# Altium integrated library library91.IntLib: 141 symbols (part 2 of 2)
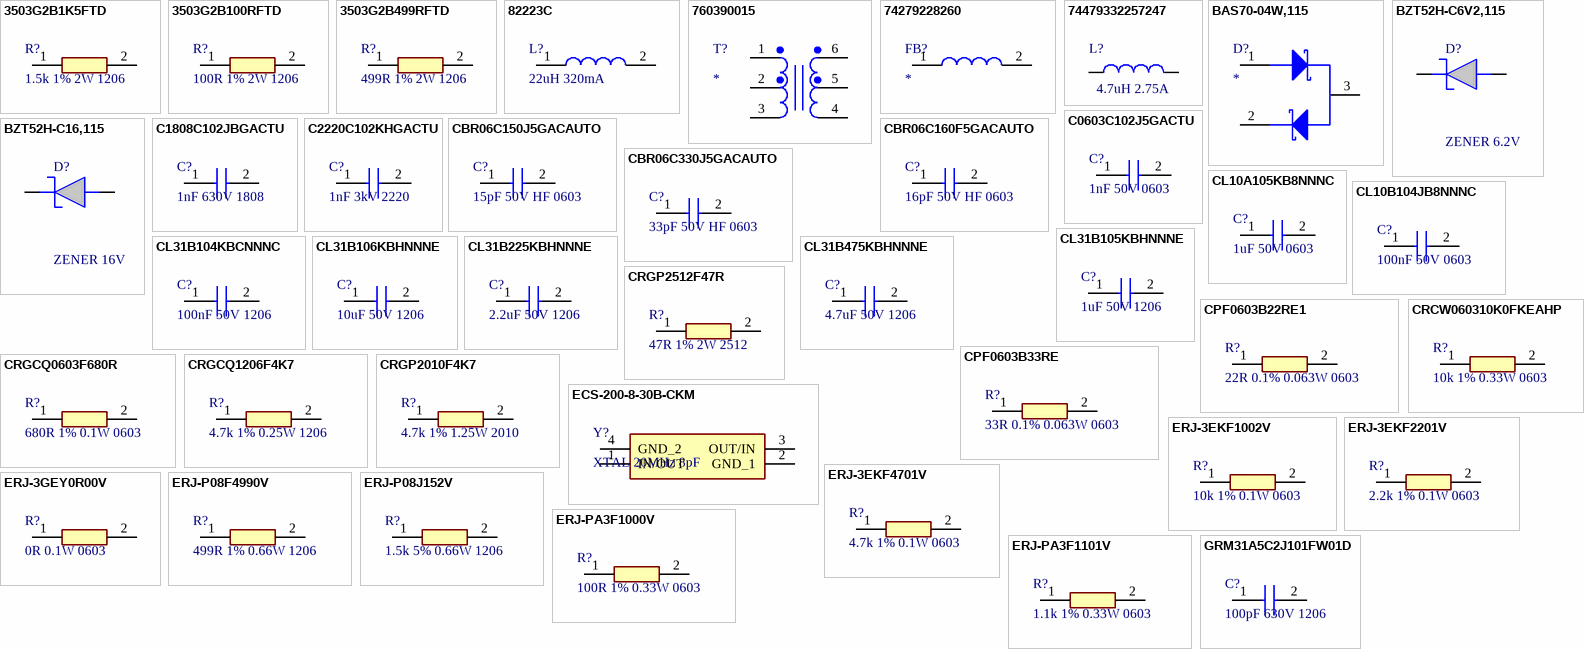
[diagram p8: symbols 3503G2B1K5FTD to GRM31A5C2J101FW01D]

## ERJ-3GEY0R00V
designator R?, comment 0R 0.1W 0603
RES 0 OHM 1/10W 0603; Manufacturer_Name: Panasonic; Manufacturer_Part_Number: ERJ-3GEY0R00V; Datasheet Link: http://docs-europe.electrocomponents.com/webdocs/13ba/0900766b813ba21b.pdf; Height: 0.55mm; Mouser Part Number: 667-ERJ-3GEY0R00V; Mouser Price/Stock: https://www.mouser.co.uk/ProductDetail/Panasonic/ERJ-3GEY0R00V?qs=66DK8nO8gJALIOqOWgiVwg%3D%3D; Arrow Part Number: ERJ-3GEY0R00V; Arrow Price/Stock: https://www.arrow.com/en/products/erj3gey0r00v/panasonic?utm_currency=USD&region=europe
footprint ERJ3EKF1000V
pins: 1, 2

## ERJ-P08F4990V
designator R?, comment 499R 1% 0.66W 1206
RES 499 OHM 1% 2/3W 1206; Manufacturer_Name: Panasonic; Manufacturer_Part_Number: ERJ-P08F4990V; Datasheet Link: http://industrial.panasonic.com/cdbs/www-data/pdf/RDO0000/AOA0000C331.pdf; Height: 0.7mm; Mouser Part Number: 667-ERJ-P08F4990V; Mouser Price/Stock: https://www.mouser.co.uk/ProductDetail/Panasonic/ERJ-P08F4990V?qs=iIVTEDlrHA1isfiYlIU3qA%3D%3D; Arrow Part Number: ERJ-P08F4990V; Arrow Price/Stock: https://www.arrow.com/en/products/erj-p08f4990v/panasonic?utm_currency=USD&region=nac
footprint ERJP08_(1206)
pins: 1, 2

## ERJ-P08J152V
designator R?, comment 1.5k 5% 0.66W 1206
RES 1.5 KOHM  5% 2/3W 1206; Manufacturer_Name: Panasonic; Manufacturer_Part_Number: ERJ-P08J152V; Datasheet Link: http://industrial.panasonic.com/cdbs/www-data/pdf/RDO0000/AOA0000C331.pdf; Height: 0.7mm; Mouser Part Number: 667-ERJ-P08J152V; Mouser Price/Stock: https://www.mouser.co.uk/ProductDetail/Panasonic/ERJ-P08J152V?qs=1VWA5LkbEaq2zTNkpqKKKA%3D%3D; Arrow Part Number: ERJ-P08J152V; Arrow Price/Stock: https://www.arrow.com/en/products/erj-p08j152v/panasonic?utm_currency=USD&region=europe
footprint ERJP08_(1206)
pins: 1, 2

## ERJ-PA3F1000V
designator R?, comment 100R 1% 0.33W 0603
RES 100 OHM 1% 1/3W 0603; Manufacturer_Name: Panasonic; Manufacturer_Part_Number: ERJ-PA3F1000V; Datasheet Link: https://industrial.panasonic.com/cdbs/www-data/pdf/RDO0000/AOA0000C331.pdf; Height: 0.55mm; Mouser Part Number: 667-ERJ-PA3F1000V; Mouser Price/Stock: https://www.mouser.co.uk/ProductDetail/Panasonic/ERJ-PA3F1000V?qs=BzJM0faLVqW%252BmZ6RyMVrFA%3D%3D; Arrow Part Number: ERJ-PA3F1000V; Arrow Price/Stock: https://www.arrow.com/en/products/erj-pa3f1000v/panasonic?utm_currency=USD&region=nac
footprint ERJP03_PA3_(0603)
pins: 1, 2

## ERJ-PA3F1101V
designator R?, comment 1.1k 1% 0.33W 0603
RES 1.1 KOHM 1% 1/3W 0603; Manufacturer_Name: Panasonic; Manufacturer_Part_Number: ERJPA3F1101V; Datasheet Link: https://industrial.panasonic.com/cdbs/www-data/pdf/RDA0000/AOA0000C243.pdf; Height: 0.55mm; Arrow Part Number: ERJPA3F1101V; Arrow Price/Stock: https://www.arrow.com/en/products/erj-pa3f1101v/panasonic?utm_currency=USD&region=nac
footprint ERJP03_PA3_(0603)
pins: 1, 2

## GRM31A5C2J101FW01D
designator C?, comment 100pF 630V 1206
CAP CER 100PF 630V C0G 1206; Manufacturer_Name: Murata Electronics; Manufacturer_Part_Number: GRM31A5C2J101FW01D; Datasheet Link: https://search.murata.co.jp/Ceramy/image/img/A01X/G101/ENG/GRM31A5C2J101FW01-05B.pdf; Height: 1.25mm; Mouser Part Number: 81-GRM31A5C2J11FW01D; Mouser Price/Stock: https://www.mouser.co.uk/ProductDetail/Murata-Electronics/GRM31A5C2J101FW01D?qs=rrS6PyfT74f3oxTTkWsVBQ%3D%3D; Arrow Part Number: GRM31A5C2J101FW01D; Arrow Price/Stock: https://www.arrow.com/en/products/grm31a5c2j101fw01d/murata-manufacturing?utm_currency=USD&region=nac
footprint GRM31x
pins: 1, 2

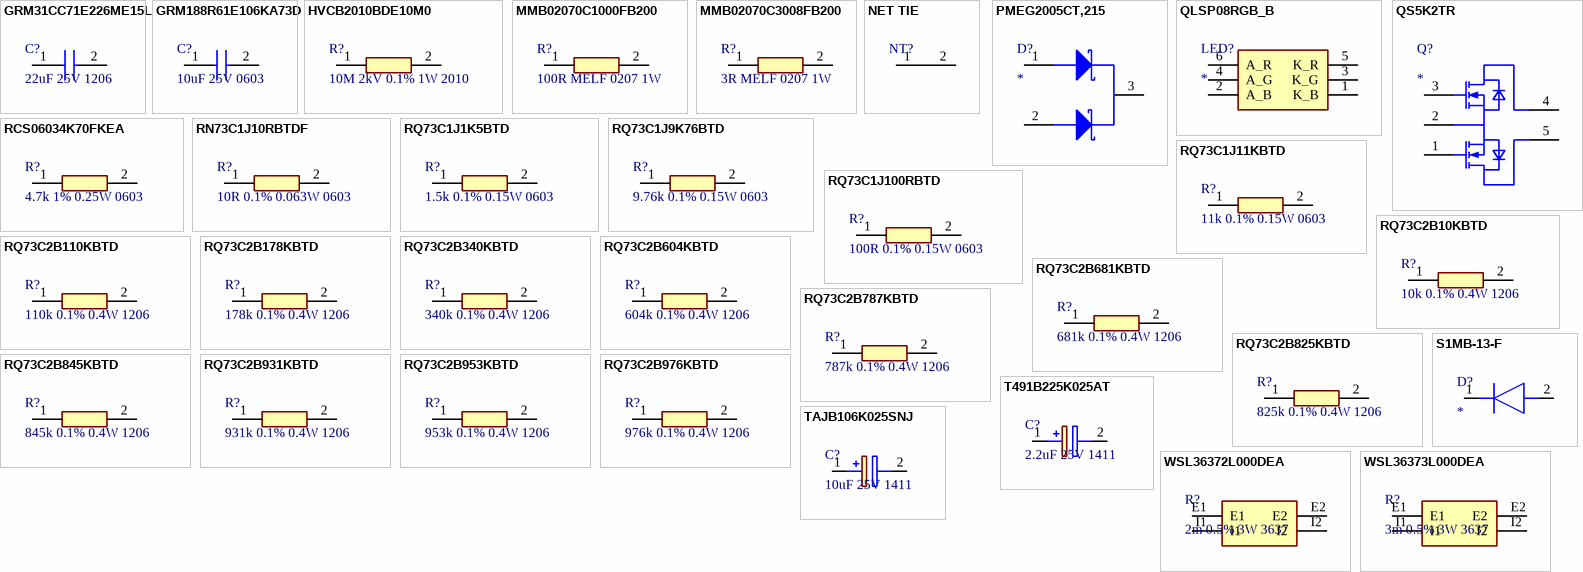
[diagram p4: symbols GRM31CC71E226ME15L to WSL36373L000DEA]

## GRM31CC71E226ME15L
designator C?, comment 22uF 25V 1206
CAP CER 22UF 25V X7S 1206; Manufacturer_Name: Murata Electronics; Manufacturer_Part_Number: GRM31CC71E226ME15L; Datasheet Link: https://search.murata.co.jp/Ceramy/image/img/A01X/G101/ENG/GRM31CC71E226ME15-01A.pdf; Height: 1.25mm; Mouser Part Number: 81-GRM31CC71E226ME5L; Mouser Price/Stock: https://www.mouser.co.uk/ProductDetail/Murata-Electronics/GRM31CC71E226ME15L?qs=pUKx8fyJudCHY0oGjx2nuQ%3D%3D; Arrow Part Number: GRM31CC71E226ME15L; Arrow Price/Stock: https://www.arrow.com/en/products/grm31cc71e226me15l/murata-manufacturing?utm_currency=USD&region=nac
footprint GRM31x
pins: 1, 2

## GRM188R61E106KA73D
designator C?, comment 10uF 25V 0603
CAP CER 10UF 25V X5R 0603; Manufacturer_Name: Murata Electronics; Manufacturer_Part_Number: GRM188R61E106KA73D; Datasheet Link: https://search.murata.co.jp/Ceramy/image/img/A01X/G101/ENG/GRM188R61E106KA73-01A.pdf; Height: 0.9mm; Mouser Part Number: 81-GRM188R61E106KA3D; Mouser Price/Stock: https://www.mouser.co.uk/ProductDetail/Murata-Electronics/GRM188R61E106KA73D?qs=5aG0NVq1C4z8ebxPkQZf9A%3D%3D; Arrow Part Number: GRM188R61E106KA73D; Arrow Price/Stock: https://www.arrow.com/en/products/grm188r61e106ka73d/murata-manufacturing?utm_currency=USD&region=nac
footprint CAPC1608X90N
pins: 1, 2

## HVCB2010BDE10M0
designator R?, comment 10M 2kV 0.1% 1W 2010
RES 10 MOHM 2KV 0.1% 1W 2010; Manufacturer_Name: Stackpole Electronics; Manufacturer_Part_Number: HVCB2010BDE10M0; Datasheet Link: https://cs.seielect.com/catalog/SEI-HVC.pdf; Height: 0.76mm; Mouser Part Number: 708-HVCB2010BDE10M0; Mouser Price/Stock: https://www.mouser.co.uk/ProductDetail/SEI-Stackpole/HVCB2010BDE10M0?qs=IPgv5n7u5QZLnWujxy1pUg%3D%3D; Arrow Part Number: HVCB2010BDE10M0; Arrow Price/Stock: https://www.arrow.com/en/products/hvcb2010bde10m0/stackpole-electronics?utm_currency=USD&region=nac
footprint RESC5125X76N
pins: 1, 2

## MMB02070C1000FB200
designator R?, comment 100R MELF 0207 1W
RES 100 OHM MELF 0207 1W; Manufacturer_Name: Vishay; Manufacturer_Part_Number: MMB02070C1000FB200; Datasheet Link: http://uk.rs-online.com/web/p/products/6787845; Mouser Part Number: 594-MMB02070C1000FB2; Mouser Price/Stock: https://www.mouser.co.uk/ProductDetail/Vishay-Beyschlag/MMB02070C1000FB200?qs=Lnc17S3XxqB4aX6TuvzPvw%3D%3D; Arrow Part Number: MMB02070C1000FB200; Arrow Price/Stock: https://www.arrow.com/en/products/mmb02070c1000fb200/vishay?utm_currency=USD&region=europe
footprint MMB0207
pins: 1, 2

## MMB02070C3008FB200
designator R?, comment 3R MELF 0207 1W
RES 3 OHM MELF 0207 1W; Manufacturer_Name: Vishay; Manufacturer_Part_Number: MMB02070C3008FB200; Datasheet Link: https://www.vishay.com/docs/28713/melfprof.pdf; Height: 2.2mm; Mouser Part Number: 594-MMB02070C3008FB2; Mouser Price/Stock: https://www.mouser.co.uk/ProductDetail/Vishay-Beyschlag/MMB02070C3008FB200?qs=YmMt7wOBEV5WUlHhJ27BBg%3D%3D; Arrow Part Number: MMB02070C3008FB200; Arrow Price/Stock: https://www.arrow.com/en/products/mmb02070c3008fb200/vishay?utm_currency=USD&region=nac
footprint MMB02070C3008FB200
pins: 1, 2

## NET TIE
designator NT?  (net tie, no BOM)
Height: 0.55mm
footprint NETTIE
pins: 1, 2

## PMEG2005CT,215
designator D?
DIODE ARR SCHOTTKY COM-K 20V TO-236AB; Manufacturer_Name: Nexperia; Manufacturer_Part_Number: PMEG2005CT,215; Datasheet Link: https://assets.nexperia.com/documents/data-sheet/PMEG2005CT.pdf; Height: 1.1mm; Mouser Part Number: 771-PMEG2005CT215; Mouser Price/Stock: https://www.mouser.co.uk/ProductDetail/Nexperia/PMEG2005CT215?qs=LMSg3oBIm%2Fhby4gUB%2FSQqQ%3D%3D; Arrow Part Number: PMEG2005CT,215; Arrow Price/Stock: https://www.arrow.com/en/products/pmeg2005ct215/nexperia?utm_currency=USD&region=nac
footprint SOT95P230X110-3N
pins: 1 ANODE_1, 2 ANODE_2, 3 COMMON_CATHODE

## QLSP08RGB_B
designator LED?
LED RGB DIFFUSED 5050 SMD; Manufacturer_Name: QUELIGHTING; Manufacturer_Part_Number: QLSP08RGB_B; Datasheet Link: https://mm.digikey.com/Volume0/opasdata/d220001/medias/docus/5338/QLSP08RGB_B.pdf; Height: 1.8mm
footprint QLSP08RGB_B
pins: 1 K_B, 2 A_B, 3 K_G, 4 A_G, 5 K_R, 6 A_R

## QS5K2TR
designator Q?
MOS 2N COMM SOUR 30V 2A TSMT5; Manufacturer_Name: ROHM Semiconductor; Manufacturer_Part_Number: QS5K2TR; Datasheet Link: http://rohmfs.rohm.com/en/products/databook/datasheet/discrete/transistor/mosfet/qs5k2.pdf; Height: 1mm; Mouser Part Number: 755-QS5K2TR; Mouser Price/Stock: https://www.mouser.co.uk/ProductDetail/ROHM-Semiconductor/QS5K2TR?qs=4kLU8WoGk0sAzJF854peiQ%3D%3D
footprint SOT95P280X100-5N
pins: 1 TR1_GATE, 2 TR1_SOURCE_TR2_SOURCE, 3 TR2_GATE, 4 TR2_DRAIN, 5 TR1_DRAIN

## RCS06034K70FKEA
designator R?, comment 4.7k 1% 0.25W 0603
RES 4.7 KOHM 1% 1/4W 0603; Manufacturer_Name: Vishay; Manufacturer_Part_Number: RCS06034K70FKEA; Datasheet Link: https://www.vishay.com/docs/20065/rcse3.pdf; Mouser Part Number: 71-RCS06034K70FKEA; Mouser Price/Stock: https://www.mouser.co.uk/ProductDetail/Vishay-Dale/RCS06034K70FKEA?qs=NKmfXavxMaxcaMGLC8ehbA%3D%3D; Arrow Part Number: RCS06034K70FKEA; Arrow Price/Stock: https://www.arrow.com/en/products/rcs06034k70fkea/vishay?utm_currency=USD&region=nac
footprint RCS0603_E3
pins: 1, 2

## RN73C1J10RBTDF
designator R?, comment 10R 0.1% 0.063W 0603
RES 10 OHM 0.1% 1/16W 0603; Manufacturer_Name: TE Connectivity; Manufacturer_Part_Number: RN73C1J10RBTDF; Datasheet Link: https://www.te.com/commerce/DocumentDelivery/DDEController?Action=srchrtrv&DocNm=8-1773459-4_ELEVATOR_ESCALATOR_SOLUTIONS&DocType=Data%20Sheet&DocLang=English&PartCntxt=8-1879133-0&DocFormat=pdf; Height: 0.55mm; Mouser Part Number: 279-RN73C1J10RBTDF; Mouser Price/Stock: https://www.mouser.com.tr/ProductDetail/TE-Connectivity-Holsworthy/RN73C1J10RBTDF?qs=iJVBkmKXgrnCb4P1y6o3xw%3D%3D; Arrow Part Number: RN73C1J10RBTDF; Arrow Price/Stock: https://www.arrow.com/en/products/rn73c1j10rbtdf/te-connectivity?q=RN73C1J10RBTDF
footprint RESC1608X55N
pins: 1, 2

## RQ73C1J1K5BTD
designator R?, comment 1.5k 0.1% 0.15W 0603
RES 1.5 KOHM 0.1% 0.15W 0603; Manufacturer_Name: TE Connectivity; Manufacturer_Part_Number: RQ73C1J1K5BTD; Datasheet Link: https://www.te.com/usa-en/product-5-2176370-3.datasheet.pdf; Height: 0.55mm; Mouser Part Number: 279-RQ73C1J1K5BTD; Mouser Price/Stock: https://www.mouser.co.uk/ProductDetail/TE-Connectivity-Holsworthy/RQ73C1J105KBTDF?qs=gZXFycFWdAObvOWrG7trrA%3D%3D; Arrow Part Number: RQ73C1J1K5BTD; Arrow Price/Stock: https://www.arrow.com/en/products/rq73c1j1k5btd/te-connectivity?q=RQ73C1J1K5BTD
footprint RESC1608X55N
pins: 1, 2

## RQ73C1J9K76BTD
designator R?, comment 9.76k 0.1% 0.15W 0603
RES 9.76 KOHM 0.1% 0.15W 0603; Manufacturer_Name: TE Connectivity; Manufacturer_Part_Number: RQ73C1J9K76BTD; Datasheet Link: https://www.te.com/usa-en/product-3-2176371-2.datasheet.pdf; Height: 0.55mm; Mouser Part Number: 279-RQ73C1J9K76BTD; Mouser Price/Stock: https://www.mouser.com.tr/ProductDetail/TE-Connectivity-Holsworthy/RQ73C1J9K76BTD?qs=gZXFycFWdAN%252Bb7SE6PAquw%3D%3D; Arrow Part Number: RQ73C1J9K76BTD; Arrow Price/Stock: https://www.arrow.com/en/products/rq73c1j9k76btd/te-connectivity
footprint RESC1608X55N
pins: 1, 2

## RQ73C1J11KBTD
designator R?, comment 11k 0.1% 0.15W 0603
RES 11 KOHM 0.1% 0.15W 0603; Manufacturer_Name: TE Connectivity; Manufacturer_Part_Number: RQ73C1J11KBTD; Datasheet Link: https://www.te.com/usa-en/product-3-2176371-7.datasheet.pdf; Height: 0.55mm; Mouser Part Number: 279-RQ73C1J11KBTD; Mouser Price/Stock: https://www.mouser.com.tr/ProductDetail/TE-Connectivity-Holsworthy/RQ73C1J11KBTD?qs=gZXFycFWdAN4lIqXU3eCqw%3D%3D
footprint RESC1608X55N
pins: 1, 2

## RQ73C1J100RBTD
designator R?, comment 100R 0.1% 0.15W 0603
RES 100 OHM 0.1% 0.15W 0603; Manufacturer_Name: TE Connectivity; Manufacturer_Part_Number: RQ73C1J100RBTD; Datasheet Link: https://www.te.com/usa-en/product-3-2176369-9.datasheet.pdf; Height: 0.55mm; Mouser Part Number: 279-RQ73C1J100RBTD; Mouser Price/Stock: https://www.mouser.co.uk/ProductDetail/TE-Connectivity-Holsworthy/RQ73C1J105KBTDF?qs=gZXFycFWdAObvOWrG7trrA%3D%3D
footprint RESC1608X55N
pins: 1, 2

## RQ73C2B10KBTD
designator R?, comment 10k 0.1% 0.4W 1206
RES 10 KOHM 0.1% 0.4W 1206; Manufacturer_Name: TE Connectivity; Manufacturer_Part_Number: RQ73C2B10KBTD; Datasheet Link: https://www.te.com/usa-en/product-9-2176390-1.datasheet.pdf; Height: 0.65mm; Mouser Part Number: 279-RQ73C2B10KBTD; Mouser Price/Stock: https://www.mouser.com.tr/ProductDetail/TE-Connectivity-Holsworthy/RQ73C2B10KBTD?qs=gZXFycFWdANWMnGuXdGmXg%3D%3D; Arrow Part Number: RQ73C2B10KBTD; Arrow Price/Stock: https://www.arrow.com/en/products/rq73c2b10kbtd/te-connectivity
footprint RESC3016X65N
pins: 1, 2

## RQ73C2B110KBTD
designator R?, comment 110k 0.1% 0.4W 1206
RES 110 KOHM 0.1% 0.4W 1206; Manufacturer_Name: TE Connectivity; Manufacturer_Part_Number: RQ73C2B110KBTD; Datasheet Link: https://www.te.com/usa-en/product-9-2176391-2.datasheet.pdf; Height: 0.65mm; Mouser Part Number: 279-RQ73C2B110KBTD; Mouser Price/Stock: https://www.mouser.com.tr/ProductDetail/TE-Connectivity-Holsworthy/RQ73C2B110KBTD?qs=gZXFycFWdAPo3ZyBERyi4A%3D%3D; Arrow Part Number: RQ73C2B110KBTD; Arrow Price/Stock: https://www.arrow.com/en/products/rq73c2b110kbtd/te-connectivity?q=RQ73C2B110KBTD
footprint RESC3016X65N
pins: 1, 2

## RQ73C2B178KBTD
designator R?, comment 178k 0.1% 0.4W 1206
RES 178 KOHM 0.1% 0.4W 1206; Manufacturer_Name: TE Connectivity; Manufacturer_Part_Number: RQ73C2B178KBTD; Datasheet Link: https://www.te.com/usa-en/product-1-2176392-3.datasheet.pdf; Height: 0.65mm; Mouser Part Number: 279-RQ73C2B178KBTD; Mouser Price/Stock: https://www.mouser.com.tr/ProductDetail/TE-Connectivity-Holsworthy/RQ73C2B178KBTD?qs=gZXFycFWdANsRYhaTIYFXg%3D%3D; Arrow Part Number: RQ73C2B178KBTD; Arrow Price/Stock: https://www.arrow.com/en/products/rq73c2b178kbtd/te-connectivity?q=RQ73C2B178KBTD
footprint RESC3016X65N
pins: 1, 2

## RQ73C2B340KBTD
designator R?, comment 340k 0.1% 0.4W 1206
RES 340 KOHM 0.1% 0.4W 1206; Manufacturer_Name: TE Connectivity; Manufacturer_Part_Number: RQ73C2B340KBTD; Datasheet Link: https://www.te.com/usa-en/product-4-2176392-0.datasheet.pdf; Height: 0.65mm; Mouser Part Number: 279-RQ73C2B340KBTD; Mouser Price/Stock: https://www.mouser.com.tr/ProductDetail/TE-Connectivity-Holsworthy/RQ73C2B340KBTD?qs=gZXFycFWdAPzxpGJ8YKiWg%3D%3D; Arrow Part Number: RQ73C2B340KBTD; Arrow Price/Stock: https://www.arrow.com/en/products/rq73c2b340kbtd/te-connectivity?q=RQ73C2B340KBTD
footprint RESC3016X65N
pins: 1, 2

## RQ73C2B604KBTD
designator R?, comment 604k 0.1% 0.4W 1206
RES 604 KOHM 0.1% 0.4W 1206; Manufacturer_Name: TE Connectivity; Manufacturer_Part_Number: RQ73C2B604KBTD; Datasheet Link: https://www.te.com/usa-en/product-8-2176392-2.datasheet.pdf; Height: 0.65mm; Mouser Part Number: 279-RQ73C2B604KBTD; Mouser Price/Stock: https://www.mouser.com.tr/ProductDetail/TE-Connectivity-Holsworthy/RQ73C2B931KBTD?qs=gZXFycFWdAO9E%2FMLcZM6Gg%3D%3D
footprint RESC3016X65N
pins: 1, 2

## RQ73C2B681KBTD
designator R?, comment 681k 0.1% 0.4W 1206
RES 681 KOHM 0.1% 0.4W 1206; Manufacturer_Name: TE Connectivity; Manufacturer_Part_Number: RQ73C2B681KBTD; Datasheet Link: https://www.te.com/usa-en/product-9-2176391-2.datasheet.pdf; Height: 0.65mm; Mouser Part Number: 279-RQ73C2B681KBTD; Mouser Price/Stock: https://www.mouser.com.tr/ProductDetail/TE-Connectivity-Holsworthy/RQ73C2B681KBTD?qs=gZXFycFWdAPPpn0x5UHFAw%3D%3D; Arrow Part Number: RQ73C2B681KBTD; Arrow Price/Stock: https://www.arrow.com/en/products/rq73c2b681kbtd/te-connectivity?q=RQ73C2B681KBTD
footprint RESC3016X65N
pins: 1, 2

## RQ73C2B787KBTD
designator R?, comment 787k 0.1% 0.4W 1206
RES 787 KOHM 0.1% 0.4W 1206; Manufacturer_Name: TE Connectivity; Manufacturer_Part_Number: RQ73C2B787KBTD; Datasheet Link: https://www.te.com/usa-en/product-8-2176392-2.datasheet.pdf; Height: 0.65mm; Mouser Part Number: 279-RQ73C2B787KBTD; Mouser Price/Stock: https://www.mouser.com.tr/ProductDetail/TE-Connectivity-Holsworthy/RQ73C2B931KBTD?qs=gZXFycFWdAO9E%2FMLcZM6Gg%3D%3D
footprint RESC3016X65N
pins: 1, 2

## RQ73C2B825KBTD
designator R?, comment 825k 0.1% 0.4W 1206
RES 825 KOHM 0.1% 0.4W 1206; Manufacturer_Name: TE Connectivity; Manufacturer_Part_Number: RQ73C2B825KBTD; Datasheet Link: https://www.te.com/usa-en/product-8-2176392-2.datasheet.pdf; Height: 0.65mm; Mouser Part Number: 279-RQ73C2B825KBTD; Mouser Price/Stock: https://www.mouser.com.tr/ProductDetail/TE-Connectivity-Holsworthy/RQ73C2B931KBTD?qs=gZXFycFWdAO9E%2FMLcZM6Gg%3D%3D
footprint RESC3016X65N
pins: 1, 2

## RQ73C2B845KBTD
designator R?, comment 845k 0.1% 0.4W 1206
RES 845 KOHM 0.1% 0.4W 1206; Manufacturer_Name: TE Connectivity; Manufacturer_Part_Number: RQ73C2B845KBTD; Datasheet Link: https://www.te.com/usa-en/product-8-2176392-2.datasheet.pdf; Height: 0.65mm; Mouser Part Number: 279-RQ73C2B845KBTD; Mouser Price/Stock: https://www.mouser.com.tr/ProductDetail/TE-Connectivity-Holsworthy/RQ73C2B931KBTD?qs=gZXFycFWdAO9E%2FMLcZM6Gg%3D%3D
footprint RESC3016X65N
pins: 1, 2

## RQ73C2B931KBTD
designator R?, comment 931k 0.1% 0.4W 1206
RES 931 KOHM 0.1% 0.4W 1206; Manufacturer_Name: TE Connectivity; Manufacturer_Part_Number: RQ73C2B931KBTD; Datasheet Link: https://www.te.com/usa-en/product-8-2176392-2.datasheet.pdf; Height: 0.65mm; Mouser Part Number: 279-RQ73C2B931KBTD; Mouser Price/Stock: https://www.mouser.com.tr/ProductDetail/TE-Connectivity-Holsworthy/RQ73C2B931KBTD?qs=gZXFycFWdAO9E%2FMLcZM6Gg%3D%3D
footprint RESC3016X65N
pins: 1, 2

## RQ73C2B953KBTD
designator R?, comment 953k 0.1% 0.4W 1206
RES 953 KOHM 0.1% 0.4W 1206; Manufacturer_Name: TE Connectivity; Manufacturer_Part_Number: RQ73C2B953KBTD; Datasheet Link: https://www.te.com/usa-en/product-8-2176392-3.datasheet.pdf; Height: 0.65mm; Mouser Part Number: 279-RQ73C2B953KBTD; Mouser Price/Stock: https://www.mouser.com.tr/ProductDetail/TE-Connectivity-Holsworthy/RQ73C2B953KBTD?qs=gZXFycFWdAOYB9tYIHl3Eg%3D%3D
footprint RESC3016X65N
pins: 1, 2

## RQ73C2B976KBTD
designator R?, comment 976k 0.1% 0.4W 1206
RES 976 KOHM 0.1% 0.4W 1206; Manufacturer_Name: TE Connectivity; Manufacturer_Part_Number: RQ73C2B976KBTD; Datasheet Link: https://www.te.com/usa-en/product-8-2176392-4.datasheet.pdf; Height: 0.65mm; Mouser Part Number: 279-RQ73C2B976KBTD; Mouser Price/Stock: https://www.mouser.com.tr/ProductDetail/TE-Connectivity-Holsworthy/RQ73C2B976KBTD?qs=gZXFycFWdAMmC0h%252BsoExcg%3D%3D; Arrow Part Number: RQ73C2B976KBTD; Arrow Price/Stock: https://www.arrow.com/en/products/rq73c2b976kbtd/te-connectivity?q=RQ73C2B976KBTD
footprint RESC3016X65N
pins: 1, 2

## S1MB-13-F
designator D?
DIODE STANDARD 1000V 1A SMB; Manufacturer_Name: Diodes Incorporated; Manufacturer_Part_Number: S1MB-13-F; Datasheet Link: https://www.diodes.com/assets/Datasheets/ds16003.pdf; Height: 2.5mm; Mouser Part Number: 621-S1MB-F; Mouser Price/Stock: https://www.mouser.co.uk/ProductDetail/Diodes-Incorporated/S1MB-13-F?qs=01Y2WuGPBKUFrqqhCYs%252Bzg%3D%3D; Arrow Part Number: S1MB-13-F; Arrow Price/Stock: https://www.arrow.com/en/products/s1mb-13-f/diodes-incorporated?utm_currency=USD&region=nac
footprint DIOM5336X250N
pins: 1 K, 2 A

## T491B225K025AT
designator C?, comment 2.2uF 25V 1411
CAP TANT 2.2UF 10% 25V 1411; Manufacturer_Name: KEMET; Manufacturer_Part_Number: T491B225K025AT; Datasheet Link: https://content.kemet.com/datasheets/KEM_T2005_T491.pdf; Height: 2.1mm; Mouser Part Number: 80-T491B225K025; Mouser Price/Stock: https://www.mouser.co.uk/ProductDetail/KEMET/T491B225K025AT?qs=ZETg8jUhDq9s%2F9Dguc3DgQ%3D%3D; Arrow Part Number: T491B225K025AT; Arrow Price/Stock: https://www.arrow.com/en/products/t491b225k025at/kemet-corporation?region=nac
footprint T491B
pins: 1 +, 2 -

## TAJB106K025SNJ
designator C?, comment 10uF 25V 1411
CAP TANT 10UF 10% 25V 1411; Manufacturer_Name: Kyocera AVX; Manufacturer_Part_Number: TAJB106K025SNJ; Datasheet Link: http://datasheets.avx.com/TAJ.pdf; Height: 2.1mm; Mouser Part Number: 581-TAJB106K025SNJ; Mouser Price/Stock: https://www.mouser.co.uk/ProductDetail/KYOCERA-AVX/TAJB106K025SNJ?qs=QtI0yD1FyOMvjoSceHF%252B6g%3D%3D; Arrow Part Number: TAJB106K025SNJ; Arrow Price/Stock: https://www.arrow.com/en/products/tajb106k025snj/avx
footprint CAPPM3528X210N
pins: 1 +, 2 -

## WSL36372L000DEA
designator R?, comment 2m 0.5% 3W 3637
RES 2 mOHM Shunt 0.5% 3W 3637; Manufacturer_Name: Vishay; Manufacturer_Part_Number: WSL36372L000DEA; Datasheet Link: https://www.vishay.com/docs/30099/wsl3637.pdf; Height: 0.889mm; Mouser Part Number: 71-WSL36372L000DEA; Mouser Price/Stock: https://www.mouser.co.uk/ProductDetail/Vishay-Dale/WSL36372L000DEA?qs=d9nEWKVlhwvlxvlIm2jIgw%3D%3D; Arrow Part Number: WSL36372L000DEA; Arrow Price/Stock: https://www.arrow.com/en/products/wsl36372l000dea/vishay?utm_currency=USD&region=europe
footprint WSL36372L000DEA
pins: E1, E2, I1, I2

## WSL36373L000DEA
designator R?, comment 3m 0.5% 3W 3637
RES 3 mOHM Shunt 0.5% 3W 3637; Manufacturer_Name: Vishay; Manufacturer_Part_Number: WSL36373L000DEA; Datasheet Link: https://www.vishay.com/doc?30099; Height: 0.889mm; Mouser Part Number: 71-WSL36373L000DEA; Mouser Price/Stock: https://www.mouser.co.uk/ProductDetail/Vishay-Dale/WSL36373L000DEA?qs=eFWhpKjIuGjyH%2FtX8Uuaqw%3D%3D; Arrow Part Number: WSL36373L000DEA; Arrow Price/Stock: https://www.arrow.com/en/products/wsl36373l000dea/vishay?utm_currency=USD&region=nac
footprint WSL36373L000DEA
pins: E1, E2, I1, I2


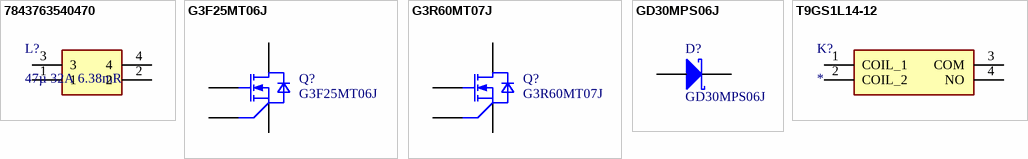
[diagram p5: symbols 7843763540470 to T9GS1L14-12]

## 7843763540470
designator L?, comment 47µ 32A 6.38mR
47 µH Unshielded Wirewound Inductor 32 A 6.38mOhm; Manufacturer_Name: Wurth Elektronik; Manufacturer_Part_Number: 7843763540470; Datasheet Link: https://www.we-online.com/components/products/datasheet/7843763540470.pdf; Height: 35mm; Mouser Part Number: 710-7843763540470; Mouser Price/Stock: https://www.mouser.co.uk/ProductDetail/Wurth-Elektronik/7843763540470?qs=1Kr7Jg1SGW9e0nEeCT5AvQ%3D%3D
footprint 7843763540470
pins: 1, 2, 3, 4

## G3F25MT06J
designator Q?
SiC MOSFET 650V 20.5mΩ TO-263-7; Manufacturer: Navitas Semiconductor; Manufacturer Order Number: G3F25MT06J; PackageReference: PG-TO263-7-11; ComponentLink1Description: Datasheet; ComponentLink1URL: https://navitassemi.com/wp-content/plugins/gb-navitas-stock-checker/product_files/G3F25MT06J.pdf
footprint TO263-7/127P1500X470-8N-2-V1 (TO,1.27mm pitch;7 pin,15.00mm L X 9.25mm W X 4.70mm H body)
pins: 1 G, 2 KS, 3 S, 4 S, 5 S, 6 S, 7 S, 8 D

## G3R60MT07J
designator Q?
SiC MOSFET 750V 60mΩ TO-263-7; Manufacturer: Navitas Semiconductor; Manufacturer Order Number: G3R60MT07J; PackageReference: PG-TO263-7-11; ComponentLink1Description: Datasheet; ComponentLink1URL: https://genesicsemi.com/sic-mosfet/G3R60MT07J/G3R60MT07J.pdf
footprint TO263-7/127P1500X470-8N-2-V1 (TO,1.27mm pitch;7 pin,15.00mm L X 9.25mm W X 4.70mm H body)
pins: 1 G, 2 KS, 3 S, 4 S, 5 S, 6 S, 7 S, 8 D

## GD30MPS06J
designator D?
SiC Schottky 650V 51A TO-263-7; Manufacturer: Navitas Semiconductor; Manufacturer Order Number: GD30MPS06J; PackageReference: PG-TO263-7-11; ComponentLink1Description: Datasheet; ComponentLink1URL: https://genesicsemi.com/sic-schottky-mps/GD30MPS06J/GD30MPS06J.pdf
footprint TO263-7/127P1500X470-8N-2-V1 (TO,1.27mm pitch;7 pin,15.00mm L X 9.25mm W X 4.70mm H body)
pins: 3 A, 4 A, 5 A, 6 A, 7 A, 8 K

## T9GS1L14-12
designator K?
RELAY GEN PURPOSE SPST 30A 12V; Manufacturer_Name: TE Connectivity; Manufacturer_Part_Number: T9GS1L14-12; Datasheet Link: https://www.te.com/commerce/DocumentDelivery/DDEController?Action=srchrtrv&DocNm=T9G&DocType=Data%20Sheet&DocLang=English&PartCntxt=1558666-3&DocFormat=pdf; Height: 27mm; Mouser Part Number: 655-T9GS1L14-12; Mouser Price/Stock: https://www.mouser.co.uk/ProductDetail/TE-Connectivity-PB/T9GS1L14-12?qs=5aG0NVq1C4zDVnant0wK4g%3D%3D; Arrow Part Number: T9GS1L14-12; Arrow Price/Stock: https://www.arrow.com/en/products/t9gs1l14-12/te-connectivity?utm_currency=USD&region=nac
footprint T9GS1L2412
pins: 1 COIL_1, 2 COIL_2, 3 COM, 4 NO


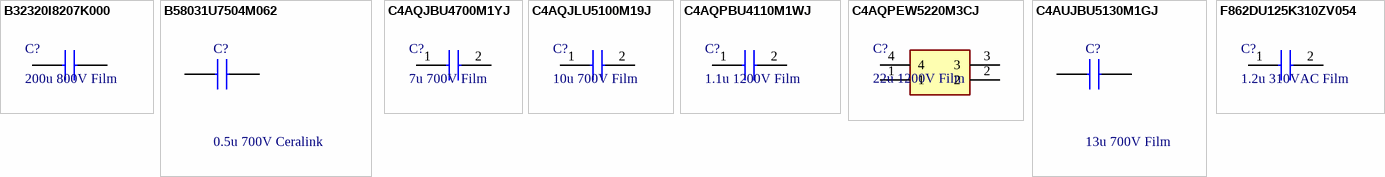
[diagram p6: symbols B32320I8207K000 to F862DU125K310ZV054]

## B32320I8207K000
designator C?, comment 200u 800V Film
CAP FILM RAD 200UF 800VDC; Manufacturer_Name: TDK; Manufacturer_Part_Number: B32320I8207K000; Datasheet Link: https://product.tdk.com/system/files/dam/doc/product/capacitor/film/ac-motor/data_sheet/b32320i_series.pdf; Height: 120mm; Mouser Part Number: 871-B32320I8207K000; Mouser Price/Stock: https://www.mouser.co.uk/ProductDetail/EPCOS-TDK/B32320I8207K000?qs=ti9wR6LxNKVDH%2F2Xvz2DHw%3D%3D
footprint B32320I8207K000
pins: 1, 2, 3, 4, 5

## B58031U7504M062
designator C?, comment 0.5u 700V Ceralink
CAP CERALINK 0.5UF 700V; Manufacturer_Name: TDK; Manufacturer_Part_Number: B58031U7504M062; Geometry.Height: 4.5mm; Mouser Part Number: 871-B58031U7504M062; Mouser Price/Stock: https://www.mouser.co.uk/ProductDetail/EPCOS-TDK/B58031U7504M062?qs=%2FQ2qp2Z%2FWFy3CL6Fsp6ffA%3D%3D; Arrow Part Number: B58031U7504M062; Arrow Price/Stock: https://www.arrow.com/en/products/b58031u7504m062/epcos-tdk; Datasheet Link: https://product.tdk.com/system/files/dam/doc/product/capacitor/ceramic/ceralink/data_sheet/20/10/ds/b58031_lp.pdf
footprint B58031U7504M062
pins: 1 +, 2 -

## C4AQJBU4700M1YJ
designator C?, comment 7u 700V Film
CAP FILM 7UF 700VDC; Manufacturer_Name: KEMET; Manufacturer_Part_Number: C4AQJBU4700M1YJ; Datasheet Link: https://content.kemet.com/datasheets/KEM_F3125_C4AQ_M.pdf; Height: 28.2mm; Mouser Part Number: 80-C4AQJBU4700M1YJ; Mouser Price/Stock: https://www.mouser.co.uk/ProductDetail/KEMET/C4AQJBU4700M1YJ?qs=81r%252BiQLm7BS8Bup5MnCiFQ%3D%3D
footprint C4AQJBU4700M1YJ
pins: 1, 2

## C4AQJLU5100M19J
designator C?, comment 10u 700V Film
CAP FILM 10UF 700VDC; Manufacturer_Name: KEMET; Manufacturer_Part_Number: C4AQJLU5100M19J; Datasheet Link: https://content.kemet.com/datasheets/KEM_F3125_C4AQ_M.pdf; Height: 19.2mm; Mouser Part Number: 80-C4AQJLU5100M19J; Mouser Price/Stock: https://www.mouser.co.uk/ProductDetail/KEMET/C4AQJLU5100M19J?qs=81r%252BiQLm7BTbh0Wp0ks0Zw%3D%3D
footprint C4AQJLU5100M19J
pins: 1, 2

## C4AQPBU4110M1WJ
designator C?, comment 1.1u 1200V Film
CAP FILM 1.1UF 1200VDC; Manufacturer_Name: KEMET; Manufacturer_Part_Number: C4AQPBU4110M1WJ; Datasheet Link: https://content.kemet.com/datasheets/KEM_F3125_C4AQ_M.pdf; Height: 20.2mm; Mouser Part Number: 80-C4AQPBU4110M1WJ; Mouser Price/Stock: https://www.mouser.co.uk/ProductDetail/KEMET/C4AQPBU4110M1WJ?qs=81r%252BiQLm7BR7Yk59RHT1sA%3D%3D
footprint C4AQPBU4110M1WJ
pins: 1, 2

## C4AQPEW5220M3CJ
designator C?, comment 22u 1200V Film
CAP FILM 22UF 1200VDC; Manufacturer_Name: KEMET; Manufacturer_Part_Number: C4AQPEW5220M3CJ; Datasheet Link: https://content.kemet.com/datasheets/KEM_F3125_C4AQ_M.pdf; Height: 57.3mm; Mouser Part Number: 80-C4AQPEW5220M3CJ; Mouser Price/Stock: https://www.mouser.co.uk/ProductDetail/KEMET/C4AQPEW5220M3CJ?qs=81r%252BiQLm7BQwjh1wyH0OZA%3D%3D
footprint C4AQPEW5220M3CJ
pins: 1, 2, 3, 4

## C4AUJBU5130M1GJ
designator C?, comment 13u 700V Film
CAP FILM 13UF 700VDC; Manufacturer_Name: KEMET; Manufacturer_Part_Number: C4AUJBU5130M1GJ; Geometry.Height: 37.7mm; Mouser Part Number: 80-C4AUJBU5130M1GJ; Mouser Price/Stock: https://www.mouser.co.uk/ProductDetail/KEMET/C4AUJBU5130M1GJ?qs=TuK3vfAjtkV42GmZ4T22qw%3D%3D; Arrow Part Number: *; Arrow Price/Stock: *; Datasheet Link: https://search.kemet.com/component-documentation/download/specsheet/C4AUJBU5130M1GJ
footprint C4AUJBU5130M1GJ
pins: 1, 2

## F862DU125K310ZV054
designator C?, comment 1.2u 310VAC Film
CAP FILM 1.2UF 310VAC 630VDC; Manufacturer_Name: KEMET; Manufacturer_Part_Number: F862DU125K310ZV054; Datasheet Link: https://connect.kemet.com:7667/gateway/IntelliData-ComponentDocumentation/1.0/download/specsheet/F862DU125K310ZV054; Height: 22mm; Arrow Part Number: F862DU125K310ZV054; Arrow Price/Stock: https://www.arrow.com/en/products/f862du125k310zv054/kemet-corporation?utm_currency=USD&region=europe
footprint F862DU125K310ZV054
pins: 1, 2


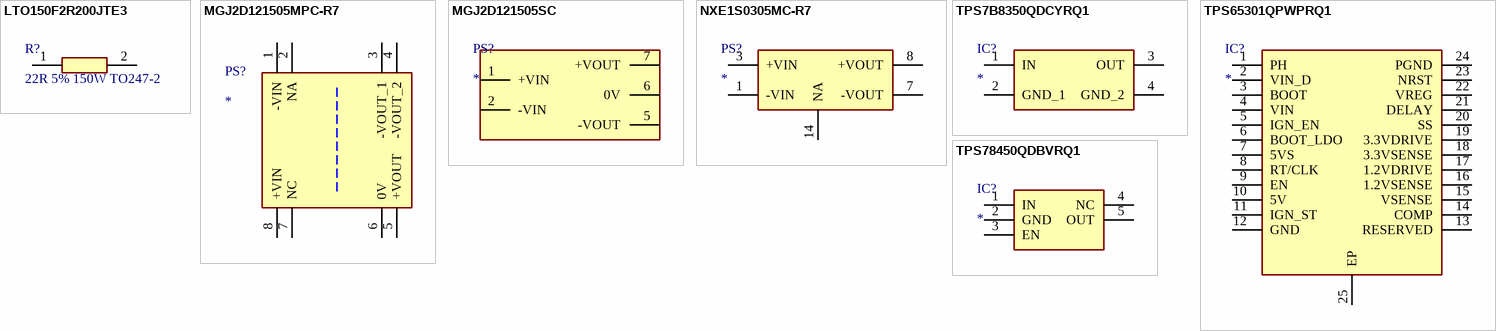
[diagram p7: symbols LTO150F2R200JTE3 to TPS78450QDBVRQ1]

## LTO150F2R200JTE3
designator R?, comment 22R 5% 150W TO247-2
RES 22 OHM 5% 150W TO247-2; Manufacturer_Name: Vishay; Manufacturer_Part_Number: LTO150F2R200JTE3; Datasheet Link: https://media.digikey.com/pdf/Data%20Sheets/Vishay%20Sfernice%20PDFs/LTO_150_Series.pdf; Height: 21mm; Mouser Part Number: 72-LTO150F2R200JTE3; Mouser Price/Stock: https://www.mouser.co.uk/ProductDetail/Vishay-Sfernice/LTO150F2R200JTE3?qs=55YtniHzbhBkF9uAdxv1ug%3D%3D; Arrow Part Number: LTO150F2R200JTE3; Arrow Price/Stock: https://www.arrow.com/en/products/lto150f2r200jte3/vishay?utm_currency=USD&region=nac
footprint LTO150F2R200JTE3
pins: 1, 2

## MGJ2D121505MPC-R7
designator PS?
12V to +15V/-5V 2W SMD Power Supply; Manufacturer_Name: Murata Electronics; Manufacturer_Part_Number: MGJ2D121505MPC-R7; Datasheet Link: https://www.mouser.jp/datasheet/2/281/1/Murata_KDC_MGJ2SM_B01-2400596.pdf; Height: 4.84mm; Mouser Part Number: 580-MGJ2D121505MPCR7; Mouser Price/Stock: https://www.mouser.co.uk/ProductDetail/Murata-Power-Solutions/MGJ2D121505MPC-R7?qs=QNEnbhJQKvY6HfjRbiDLPw%3D%3D; Arrow Part Number: MGJ2D121505MPC-R7; Arrow Price/Stock: https://www.arrow.com/en/products/mgj2d121505mpc-r7/murata-power-solutions?utm_currency=USD&region=nac
footprint MGJ2D121505MPCR7
pins: 1 -VIN, 2 NA, 3 -VOUT_1, 4 -VOUT_2, 5 +VOUT, 6 0V, 7 NC, 8 +VIN

## MGJ2D121505SC
designator PS?
12V to +15V/-5V 2W THT Power Supply; Manufacturer_Name: Murata Electronics; Manufacturer_Part_Number: MGJ2D121505SC; Datasheet Link: https://power.murata.com/pub/data/power/ncl/kdc_mgj2.pdf; Mouser Part Number: 580-MGJ2D121505SC; Mouser Price/Stock: https://www.mouser.co.uk/ProductDetail/Murata-Power-Solutions/MGJ2D121505SC?qs=xLDY6iXSiQalaVPFcxvgBQ%3D%3D; Arrow Part Number: MGJ2D121505SC; Arrow Price/Stock: https://www.arrow.com/en/products/mgj2d121505sc/murata-power-solutions?region=nac
footprint MGJ2D_7-PIN-SIP
pins: 1 +VIN, 2 -VIN, 5 -VOUT, 6 0V, 7 +VOUT

## NXE1S0305MC-R7
designator PS?
3.3V to 5V 1W Isolated; Manufacturer_Name: Murata Electronics; Manufacturer_Part_Number: NXE1S0305MC-R7; Datasheet Link: https://power.murata.com/data/power/ncl/kdc_nxe1.pdf; Height: 4mm; Mouser Part Number: 580-NXE1S0305MC-R7; Mouser Price/Stock: https://www.mouser.co.uk/ProductDetail/Murata-Power-Solutions/NXE1S0305MC-R7?qs=xc9CAX%252B0%252BIJlW5%252BmRDSQWQ%3D%3D; Arrow Part Number: NXE1S0305MC-R7; Arrow Price/Stock: https://www.arrow.com/en/products/nxe1s0305mc-r7/murata-power-solutions?utm_currency=USD&region=europe
footprint NXE1S0305MCR7
pins: 1 -VIN, 3 +VIN, 7 -VOUT, 8 +VOUT, 14 NA

## TPS7B8350QDCYRQ1
designator IC?
REG LINEAR 5V 150MA SOT-223-4; Manufacturer_Name: Texas Instruments; Manufacturer_Part_Number: TPS7B8350QDCYRQ1; Datasheet Link: https://www.ti.com/lit/ds/symlink/tps7b83-q1.pdf?ts=1611892622719&ref_url=https%253A%252F%252Fwww.ti.com%252Fstore%252Fti%252Fen%252Fp%252Fproduct%252F%253Fp%253DTPS7B8350QDCYRQ1; Height: 1.8mm; Mouser Part Number: 595-TPS7B8350QDCYRQ1; Mouser Price/Stock: https://www.mouser.co.uk/ProductDetail/Texas-Instruments/TPS7B8350QDCYRQ1?qs=81r%252BiQLm7BRkgKSQKWHoCg%3D%3D; Arrow Part Number: TPS7B8350QDCYRQ1; Arrow Price/Stock: https://www.arrow.com/en/products/tps7b8350qdcyrq1/texas-instruments?utm_currency=USD&region=nac
footprint SOT230P700X180-4N
pins: 1 IN, 2 GND_1, 3 OUT, 4 GND_2

## TPS65301QPWPRQ1
designator IC?
5.6V - 40V INPUT 5.45V/3.3V/1.2V BUCK/LDO OUT; Manufacturer_Name: Texas Instruments; Manufacturer_Part_Number: TPS65301QPWPRQ1; Datasheet Link: http://www.ti.com/lit/gpn/tps65301-q1; Height: 1.2mm; Mouser Part Number: 595-TPS65301QPWPRQ1; Mouser Price/Stock: https://www.mouser.co.uk/ProductDetail/Texas-Instruments/TPS65301QPWPRQ1?qs=JRStGrVgRuSczJYZofBTDA%3D%3D; Arrow Part Number: TPS65301QPWPRQ1; Arrow Price/Stock: https://www.arrow.com/en/products/tps65301qpwprq1/texas-instruments?utm_currency=USD&region=nac
footprint SOP65P640X120-25N
pins: 1 PH, 2 VIN_D, 3 BOOT, 4 VIN, 5 IGN_EN, 6 BOOT_LDO, 7 5VS, 8 RT/CLK, 9 EN, 10 5V, 11 IGN_ST, 12 GND, 13 RESERVED, 14 COMP, 15 VSENSE, 16 1.2VSENSE, 17 1.2VDRIVE, 18 3.3VSENSE, 19 3.3VDRIVE, 20 SS, 21 DELAY, 22 VREG, 23 NRST, 24 PGND, 25 EP

## TPS78450QDBVRQ1
designator IC?
REG LINEAR 5V 300MA SOT23-5; Manufacturer_Name: Texas Instruments; Manufacturer_Part_Number: TPS78450QDBVRQ1; Datasheet Link: https://www.ti.com/lit/ds/symlink/tps784-q1.pdf?ts=1621597556803&ref_url=https%253A%252F%252Fwww.ti.com%252Fstore%252Fti%252Fen%252Fp%252Fproduct%252F%253Fp%253DTPS78401QDBVRQ1; Height: 1.45mm; Mouser Part Number: 595-TPS78450QDBVRQ1; Mouser Price/Stock: https://www.mouser.co.uk/ProductDetail/Texas-Instruments/TPS78450QDBVRQ1?qs=OlC7AqGiEDlNiKKFTXJdtA%3D%3D; Arrow Part Number: TPS78450QDBVRQ1; Arrow Price/Stock: https://www.arrow.com/en/products/tps78450qdbvrq1/texas-instruments?utm_currency=USD&region=nac
footprint SOT95P280X145-5N
pins: 1 IN, 2 GND, 3 EN, 4 NC, 5 OUT